# Altium schematic symbol library SamacSys.SchLib: 11 symbols
Pins are listed as number, name and electrical type; pins without a type are passive.

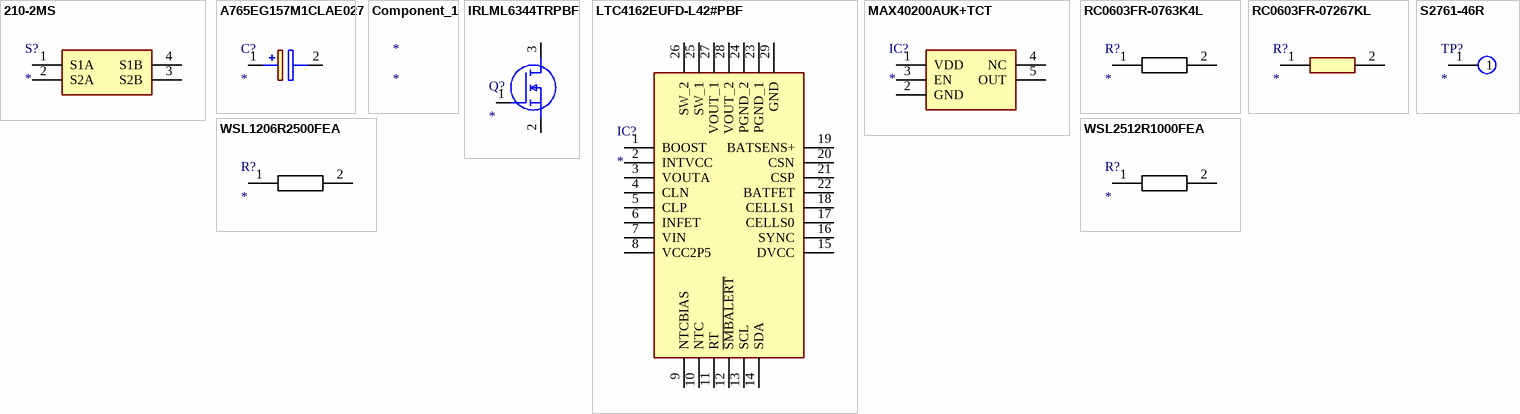
[diagram p0: symbols 210-2MS to WSL2512R1000FEA]

## 210-2MS
designator S?
Switch; Manufacturer_Name: CTS; Manufacturer_Part_Number: 210-2MS; Datasheet Link: https://componentsearchengine.com/Datasheets/1/210-2MS.pdf; Height: 4.58mm; Mouser Part Number: 774-2102MS; Mouser Price/Stock: https://www.mouser.co.uk/ProductDetail/CTS-Electronic-Components/210-2MS?qs=hDoPxpGr7ldHQa2fpEXONg%3D%3D; Arrow Part Number: 210-2MS; Arrow Price/Stock: https://www.arrow.com/en/products/210-2ms/cts
footprint DIP775W63P254L655H458Q4N
pins: 1 S1A, 2 S2A, 3 S2B, 4 S1B

## A765EG157M1CLAE027
designator C?
Capacitor Polarised; Manufacturer_Name: KEMET; Manufacturer_Part_Number: A765EG157M1CLAE027; Datasheet Link: https://content.kemet.com/datasheets/KEM_A4070_A765.pdf; Height: 7.3mm; Mouser Part Number: 80-A765EG157M1CLAE27; Mouser Price/Stock: https://www.mouser.co.uk/ProductDetail/KEMET/A765EG157M1CLAE027?qs=M6jHmRuQorWp0y%252BvvSOgjA%3D%3D
footprint CAPAE660X730N
pins: 1 +, 2 -

## Component_1
designator *

## IRLML6344TRPBF
designator Q?
MOSFET (N-Channel); Manufacturer_Name: Infineon; Manufacturer_Part_Number: IRLML6344TRPBF; Datasheet Link: https://www.infineon.com/dgdl/irlml6344pbf.pdf?fileId=5546d462533600a4015356689c44262c; Height: 1.12mm; Mouser Part Number: 942-IRLML6344TRPBF; Mouser Price/Stock: https://www.mouser.co.uk/ProductDetail/Infineon-Technologies/IRLML6344TRPBF?qs=9%252BKlkBgLFf2w4qS48UOXVw%3D%3D; Arrow Part Number: IRLML6344TRPBF; Arrow Price/Stock: https://www.arrow.com/en/products/irlml6344trpbf/infineon-technologies-ag?utm_currency=USD&region=nac
footprint SOT95P237X112-3N
pins: 1 G, 2 S, 3 D

## LTC4162EUFD-L42#PBF
designator IC?
Integrated Circuit; Manufacturer_Name: Analog Devices; Manufacturer_Part_Number: LTC4162EUFD-L42#PBF; Datasheet Link: https://www.analog.com/media/en/technical-documentation/data-sheets/LTC4162-L.pdf; Height: 0.8mm; Mouser Part Number: 584-4162EUFDL42PB; Mouser Price/Stock: https://www.mouser.co.uk/ProductDetail/Analog-Devices/LTC4162EUFD-L42PBF?qs=MLItCLRbWsz3JPFW5UIzwg%3D%3D; Arrow Part Number: LTC4162EUFD-L42#PBF; Arrow Price/Stock: https://www.arrow.com/en/products/ltc4162eufd-l42pbf/analog-devices?region=nac
footprint QFN50P400X500X80-29N-D
pins: 1 BOOST, 2 INTVCC, 3 VOUTA, 4 CLN, 5 CLP, 6 INFET, 7 VIN, 8 VCC2P5, 9 NTCBIAS, 10 NTC, 11 RT, 12 ~{SMBALERT}, 13 SCL, 14 SDA, 15 DVCC, 16 SYNC, 17 CELLS0, 18 CELLS1, 19 BATSENS+, 20 CSN, 21 CSP, 22 BATFET, 23 PGND_1, 24 PGND_2, 25 SW_1, 26 SW_2, 27 VOUT_1, 28 VOUT_2, 29 GND

## MAX40200AUK+TCT
designator IC?
Integrated Circuit; Manufacturer_Name: Analog Devices; Manufacturer_Part_Number: MAX40200AUK+TCT; Height: 1.45mm
footprint SOT95P280X145-5N
pins: 1 VDD, 2 GND, 3 EN, 4 NC, 5 OUT

## RC0603FR-0763K4L
designator R?
Resistor; Manufacturer_Name: KEMET; Manufacturer_Part_Number: RC0603FR-0763K4L; Datasheet Link: http://www.yageo.com/documents/recent/PYu-RC0603_51_RoHS_L_v5.pdf; Height: 0.55mm; Mouser Part Number: 603-RC0603FR-0763K4L; Mouser Price/Stock: https://www.mouser.co.uk/ProductDetail/Yageo/RC0603FR-0763K4L?qs=bK2T7AVO1ye5WfXmb5QR%252Bw%3D%3D; Arrow Part Number: RC0603FR-0763K4L; Arrow Price/Stock: https://www.arrow.com/en/products/rc0603fr-0763k4l/yageo
footprint RESC1608X55N
pins: 1, 2

## RC0603FR-07267KL
designator R?
Resistor; Manufacturer_Name: KEMET; Manufacturer_Part_Number: RC0603FR-07267KL; Datasheet Link: http://www.yageo.com/documents/recent/PYu-RC0603_51_RoHS_L_v5.pdf; Height: 0.55mm
footprint RESC1608X55N
pins: 1, 2

## S2761-46R
designator TP?
Test Point; Manufacturer_Name: Harwin; Manufacturer_Part_Number: S2761-46R; Datasheet Link: https://www.mouser.fr/ProductDetail/Harwin/S2761-46R?qs=DaxoyN%2FvrebHvZaagZ7Fog%3D%3D; Height: 1.15mm; Mouser Part Number: 855-S2761-46R; Mouser Price/Stock: https://www.mouser.co.uk/ProductDetail/Harwin/S2761-46R?qs=DaxoyN%2FvrebHvZaagZ7Fog%3D%3D
footprint S276146R
pins: 1

## WSL1206R2500FEA
designator R?
Resistor; Manufacturer_Name: Vishay; Manufacturer_Part_Number: WSL1206R2500FEA; Datasheet Link: https://www.mouser.in/datasheet/2/427/wslhigh-1762363.pdf; Height: 0.889mm; Mouser Part Number: 71-WSL1206R2500FEA; Mouser Price/Stock: https://www.mouser.co.uk/ProductDetail/Vishay-Dale/WSL1206R2500FEA?qs=fncU5wK7Cm8cLM%252BaCMrFvQ%3D%3D
footprint RESC3216X89N
pins: 1, 2

## WSL2512R1000FEA
designator R?
Resistor; Manufacturer_Name: Vishay; Manufacturer_Part_Number: WSL2512R1000FEA; Datasheet Link: http://www.farnell.com/datasheets/2049120.pdf; Height: 0.889mm; Mouser Part Number: 71-WSL2512R1000FEA; Mouser Price/Stock: https://www.mouser.co.uk/ProductDetail/Vishay-Dale/WSL2512R1000FEA?qs=ViWNInbc%252BeVuqDCpvibv1w%3D%3D; Arrow Part Number: WSL2512R1000FEA; Arrow Price/Stock: https://www.arrow.com/en/products/wsl2512r1000fea/vishay?utm_currency=USD&region=europe
footprint RESC6432X89N
pins: 1, 2